# Altium schematic symbol library BNC.Schlib: 1 symbol
Pins are listed as number, name and electrical type; pins without a type are passive.

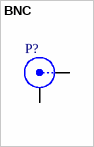
[diagram p0: symbol BNC]

## BNC
designator P?
BNC Elbow Connector
pins: 1 X, 2 Y